# EAGLE library part EK-TM4C123GXL (library Custom)
EK-TM4C123GXL Tiva C-Series Launchpad Revision B Development board
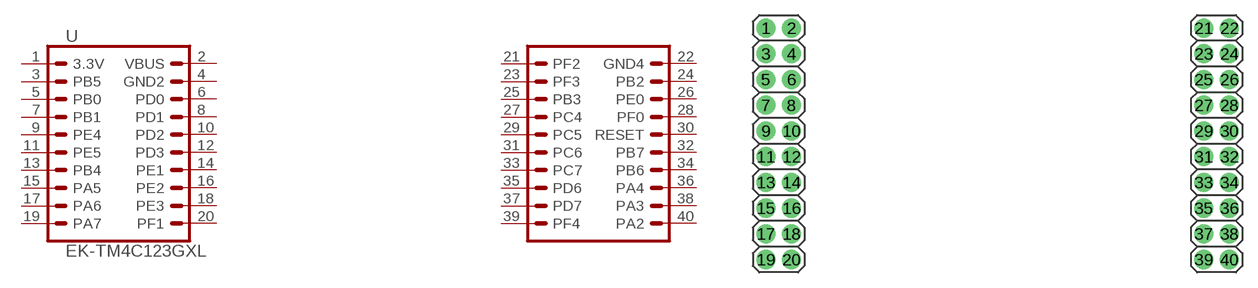
[diagram p0: symbol with the pads of EK-TM4C123GXL; footprint EK-TM4C123GXL]

Designator prefix -

## EK-TM4C123GXL  [EK-TM4C123GXL]
1  3.3V  pwr
2  VBUS  pwr
3  PB5
4  GND2  pwr
5  PB0
6  PD0
7  PB1
8  PD1
9  PE4
10  PD2
11  PE5
12  PD3
13  PB4
14  PE1
15  PA5
16  PE2
17  PA6
18  PE3
19  PA7
20  PF1
21  PF2
22  GND4  pwr
23  PF3
24  PB2
25  PB3
26  PE0
27  PC4
28  PF0
29  PC5
30  RESET  in
31  PC6
32  PB7
33  PC7
34  PB6
35  PD6
36  PA4
37  PD7
38  PA3
39  PF4
40  PA2

## Footprint EK-TM4C123GXL (pad centres in mm)
drill 1.016 pad 1.88: 1 -21.59,11.43; 2 -19.05,11.43; 3 -21.59,8.89; 4 -19.05,8.89; 5 -21.59,6.35; 6 -19.05,6.35; 7 -21.59,3.81; 8 -19.05,3.81; 9 -21.59,1.27; 10 -19.05,1.27; 11 -21.59,-1.27; 12 -19.05,-1.27; 13 -21.59,-3.81; 14 -19.05,-3.81; 15 -21.59,-6.35; 16 -19.05,-6.35; 17 -21.59,-8.89; 18 -19.05,-8.89; 19 -21.59,-11.43; 20 -19.05,-11.43; 21 21.59,11.43; 22 24.13,11.43; 23 21.59,8.89; 24 24.13,8.89; 25 21.59,6.35; 26 24.13,6.35; 27 21.59,3.81; 28 24.13,3.81; 29 21.59,1.27; 30 24.13,1.27; 31 21.59,-1.27; 32 24.13,-1.27; 33 21.59,-3.81; 34 24.13,-3.81; 35 21.59,-6.35; 36 24.13,-6.35; 37 21.59,-8.89; 38 24.13,-8.89; 39 21.59,-11.43; 40 24.13,-11.43